# EAGLE library part AND_GATE_2CH (library AmandaEagleLibrary)
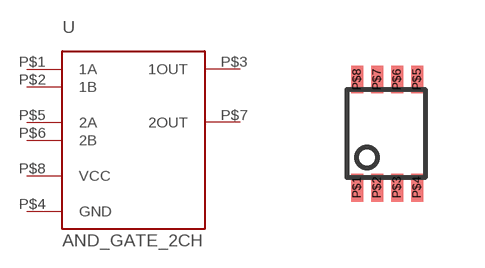
[diagram p5: symbol with the pads of 8-TSSOP; footprint 8-TSSOP]

Designator prefix -

## AND_GATE_2CH  [8-TSSOP]
P$1  1A
P$2  1B
P$3  1OUT
P$4  GND
P$5  2A
P$6  2B
P$7  2OUT
P$8  VCC

## Footprint 8-TSSOP (pad centres in mm)
smd 0.3 x 0.7: P$1 -0.762,-1.27; P$2 -0.262,-1.27; P$3 0.238,-1.27; P$4 0.738,-1.27; P$5 0.738,1.43; P$6 0.238,1.43; P$7 -0.262,1.43; P$8 -0.762,1.43